# Altium schematic symbol library COMPONENTES.SchLib: 87 symbols
Pins are listed as number, name and electrical type; pins without a type are passive.

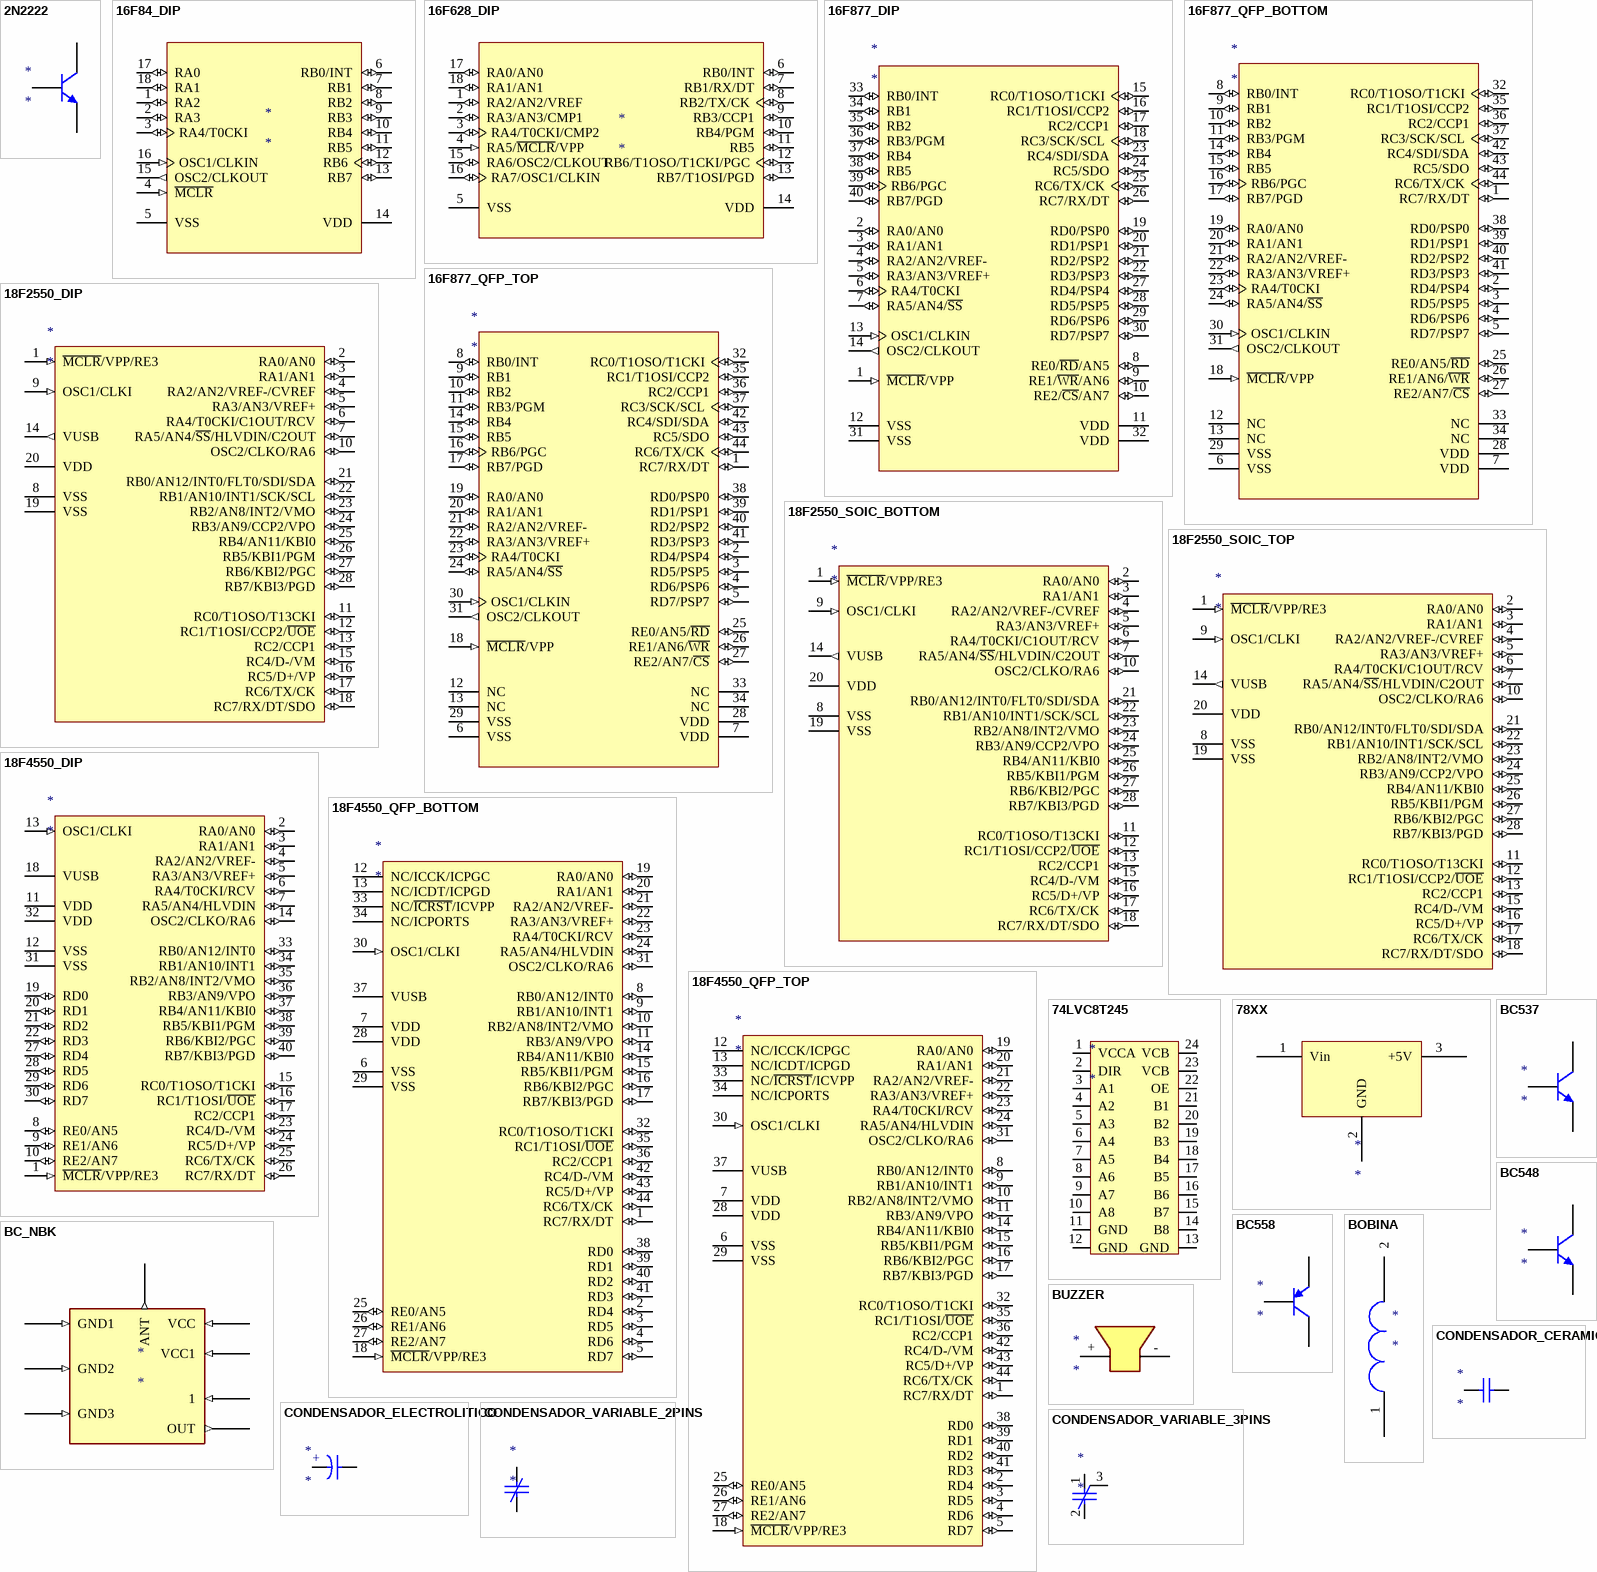
[diagram p0: symbols 2N2222 to CONDENSADOR_VARIABLE_3PINS]

## 2N2222
designator *
footprint 2N2222 (Can; 3 Leads; Pin Circle Dia. 2.54 mm; Lead Dia. 0.48 mm (max))
pins: B, C, E

## 16F84_DIP
designator *
footprint 16F84_DIP
pins: 1 RA2 (io), 2 RA3 (io), 3 RA4/T0CKI (io), 4 ~{MCLR} (in), 5 VSS (power), 6 RB0/INT (io), 7 RB1 (io), 8 RB2 (io), 9 RB3 (io), 10 RB4 (io), 11 RB5 (io), 12 RB6 (io), 13 RB7 (io), 14 VDD (power), 15 OSC2/CLKOUT (out), 16 OSC1/CLKIN (in), 17 RA0 (io), 18 RA1 (io)

## 16F628_DIP
designator *
footprint 16F628_DIP
pins: 1 RA2/AN2/VREF (io), 2 RA3/AN3/CMP1 (io), 3 RA4/T0CKI/CMP2 (io), 4 RA5/~{MCLR}/VPP (in), 5 VSS (power), 6 RB0/INT (io), 7 RB1/RX/DT (io), 8 RB2/TX/CK (io), 9 RB3/CCP1 (io), 10 RB4/PGM (io), 11 RB5 (io), 12 RB6/T1OSO/T1CKI/PGC (io), 13 RB7/T1OSI/PGD (io), 14 VDD (power), 15 RA6/OSC2/CLKOUT (io), 16 RA7/OSC1/CLKIN (io), 17 RA0/AN0 (io), 18 RA1/AN1 (io)

## 16F877_DIP
designator *
footprint 16F877_DIP
pins: 1 ~{MCLR}/VPP (in), 2 RA0/AN0 (io), 3 RA1/AN1 (io), 4 RA2/AN2/VREF- (io), 5 RA3/AN3/VREF+ (io), 6 RA4/T0CKI (io), 7 RA5/AN4/~{SS} (io), 8 RE0/~{RD}/AN5 (io), 9 RE1/~{WR}/AN6 (io), 10 RE2/~{CS}/AN7 (io), 11 VDD (power), 12 VSS (power), 13 OSC1/CLKIN (in), 14 OSC2/CLKOUT (out), 15 RC0/T1OSO/T1CKI (io), 16 RC1/T1OSI/CCP2 (io), 17 RC2/CCP1 (io), 18 RC3/SCK/SCL (io), 19 RD0/PSP0 (io), 20 RD1/PSP1 (io), 21 RD2/PSP2 (io), 22 RD3/PSP3 (io), 23 RC4/SDI/SDA (io), 24 RC5/SDO (io), 25 RC6/TX/CK (io), 26 RC7/RX/DT (io), 27 RD4/PSP4 (io), 28 RD5/PSP5 (io), 29 RD6/PSP6 (io), 30 RD7/PSP7 (io), 31 VSS (power), 32 VDD (power), 33 RB0/INT (io), 34 RB1 (io), 35 RB2 (io), 36 RB3/PGM (io), 37 RB4 (io), 38 RB5 (io), 39 RB6/PGC (io), 40 RB7/PGD (io)

## 16F877_QFP_BOTTOM
designator *
footprint 16F877_QFP_BOTOM
pins: 1 RC7/RX/DT (io), 2 RD4/PSP4 (io), 3 RD5/PSP5 (io), 4 RD6/PSP6 (io), 5 RD7/PSP7 (io), 6 VSS (power), 7 VDD (power), 8 RB0/INT (io), 9 RB1 (io), 10 RB2 (io), 11 RB3/PGM (io), 12 NC, 13 NC, 14 RB4 (io), 15 RB5 (io), 16 RB6/PGC (io), 17 RB7/PGD (io), 18 ~{MCLR}/VPP (in), 19 RA0/AN0 (io), 20 RA1/AN1 (io), 21 RA2/AN2/VREF- (io), 22 RA3/AN3/VREF+ (io), 23 RA4/T0CKI (io), 24 RA5/AN4/~{SS} (io), 25 RE0/AN5/~{RD} (io), 26 RE1/AN6/~{WR} (io), 27 RE2/AN7/~{CS} (io), 28 VDD (power), 29 VSS (power), 30 OSC1/CLKIN (in), 31 OSC2/CLKOUT (out), 32 RC0/T1OSO/T1CKI (io), 33 NC, 34 NC, 35 RC1/T1OSI/CCP2 (io), 36 RC2/CCP1 (io), 37 RC3/SCK/SCL (io), 38 RD0/PSP0 (io), 39 RD1/PSP1 (io), 40 RD2/PSP2 (io), 41 RD3/PSP3 (io), 42 RC4/SDI/SDA (io), 43 RC5/SDO (io), 44 RC6/TX/CK (io)

## 16F877_QFP_TOP
designator *
footprint 16F877_QFP_TOP
pins: 1 RC7/RX/DT (io), 2 RD4/PSP4 (io), 3 RD5/PSP5 (io), 4 RD6/PSP6 (io), 5 RD7/PSP7 (io), 6 VSS (power), 7 VDD (power), 8 RB0/INT (io), 9 RB1 (io), 10 RB2 (io), 11 RB3/PGM (io), 12 NC, 13 NC, 14 RB4 (io), 15 RB5 (io), 16 RB6/PGC (io), 17 RB7/PGD (io), 18 ~{MCLR}/VPP (in), 19 RA0/AN0 (io), 20 RA1/AN1 (io), 21 RA2/AN2/VREF- (io), 22 RA3/AN3/VREF+ (io), 23 RA4/T0CKI (io), 24 RA5/AN4/~{SS} (io), 25 RE0/AN5/~{RD} (io), 26 RE1/AN6/~{WR} (io), 27 RE2/AN7/~{CS} (io), 28 VDD (power), 29 VSS (power), 30 OSC1/CLKIN (in), 31 OSC2/CLKOUT (out), 32 RC0/T1OSO/T1CKI (io), 33 NC, 34 NC, 35 RC1/T1OSI/CCP2 (io), 36 RC2/CCP1 (io), 37 RC3/SCK/SCL (io), 38 RD0/PSP0 (io), 39 RD1/PSP1 (io), 40 RD2/PSP2 (io), 41 RD3/PSP3 (io), 42 RC4/SDI/SDA (io), 43 RC5/SDO (io), 44 RC6/TX/CK (io)

## 18F2550_DIP
designator *
footprint 18F2550_DIP
pins: 1 ~{MCLR}/VPP/RE3 (in), 2 RA0/AN0 (io), 3 RA1/AN1 (io), 4 RA2/AN2/VREF-/CVREF (io), 5 RA3/AN3/VREF+ (io), 6 RA4/T0CKI/C1OUT/RCV (io), 7 RA5/AN4/~{SS}/HLVDIN/C2OUT (io), 8 VSS (power), 9 OSC1/CLKI (in), 10 OSC2/CLKO/RA6 (io), 11 RC0/T1OSO/T13CKI (io), 12 RC1/T1OSI/CCP2/~{UOE} (io), 13 RC2/CCP1 (io), 14 VUSB (out), 15 RC4/D-/VM (io), 16 RC5/D+/VP (io), 17 RC6/TX/CK (io), 18 RC7/RX/DT/SDO (io), 19 VSS (power), 20 VDD (power), 21 RB0/AN12/INT0/FLT0/SDI/SDA (io), 22 RB1/AN10/INT1/SCK/SCL (io), 23 RB2/AN8/INT2/VMO (io), 24 RB3/AN9/CCP2/VPO (io), 25 RB4/AN11/KBI0 (io), 26 RB5/KBI1/PGM (io), 27 RB6/KBI2/PGC (io), 28 RB7/KBI3/PGD (io)

## 18F2550_SOIC_BOTTOM
designator *
footprint 18F2550_SOIC_BOTTOM
pins: 1 ~{MCLR}/VPP/RE3 (in), 2 RA0/AN0 (io), 3 RA1/AN1 (io), 4 RA2/AN2/VREF-/CVREF (io), 5 RA3/AN3/VREF+ (io), 6 RA4/T0CKI/C1OUT/RCV (io), 7 RA5/AN4/~{SS}/HLVDIN/C2OUT (io), 8 VSS (power), 9 OSC1/CLKI (in), 10 OSC2/CLKO/RA6 (io), 11 RC0/T1OSO/T13CKI (io), 12 RC1/T1OSI/CCP2/~{UOE} (io), 13 RC2/CCP1 (io), 14 VUSB (out), 15 RC4/D-/VM (io), 16 RC5/D+/VP (io), 17 RC6/TX/CK (io), 18 RC7/RX/DT/SDO (io), 19 VSS (power), 20 VDD (power), 21 RB0/AN12/INT0/FLT0/SDI/SDA (io), 22 RB1/AN10/INT1/SCK/SCL (io), 23 RB2/AN8/INT2/VMO (io), 24 RB3/AN9/CCP2/VPO (io), 25 RB4/AN11/KBI0 (io), 26 RB5/KBI1/PGM (io), 27 RB6/KBI2/PGC (io), 28 RB7/KBI3/PGD (io)

## 18F2550_SOIC_TOP
designator *
footprint 18F2550_SOIC_TOP (28-Pin Small Outline Integrated Circuit 1.27 mm Pitch, IPC High Density)
pins: 1 ~{MCLR}/VPP/RE3 (in), 2 RA0/AN0 (io), 3 RA1/AN1 (io), 4 RA2/AN2/VREF-/CVREF (io), 5 RA3/AN3/VREF+ (io), 6 RA4/T0CKI/C1OUT/RCV (io), 7 RA5/AN4/~{SS}/HLVDIN/C2OUT (io), 8 VSS (power), 9 OSC1/CLKI (in), 10 OSC2/CLKO/RA6 (io), 11 RC0/T1OSO/T13CKI (io), 12 RC1/T1OSI/CCP2/~{UOE} (io), 13 RC2/CCP1 (io), 14 VUSB (out), 15 RC4/D-/VM (io), 16 RC5/D+/VP (io), 17 RC6/TX/CK (io), 18 RC7/RX/DT/SDO (io), 19 VSS (power), 20 VDD (power), 21 RB0/AN12/INT0/FLT0/SDI/SDA (io), 22 RB1/AN10/INT1/SCK/SCL (io), 23 RB2/AN8/INT2/VMO (io), 24 RB3/AN9/CCP2/VPO (io), 25 RB4/AN11/KBI0 (io), 26 RB5/KBI1/PGM (io), 27 RB6/KBI2/PGC (io), 28 RB7/KBI3/PGD (io)

## 18F4550_DIP
designator *
footprint 18F4550_DIP
pins: 1 ~{MCLR}/VPP/RE3 (in), 2 RA0/AN0 (io), 3 RA1/AN1 (io), 4 RA2/AN2/VREF- (io), 5 RA3/AN3/VREF+ (io), 6 RA4/T0CKI/RCV (io), 7 RA5/AN4/HLVDIN (io), 8 RE0/AN5 (io), 9 RE1/AN6 (io), 10 RE2/AN7 (io), 11 VDD (power), 12 VSS (power), 13 OSC1/CLKI (in), 14 OSC2/CLKO/RA6 (io), 15 RC0/T1OSO/T1CKI (io), 16 RC1/T1OSI/~{UOE} (io), 17 RC2/CCP1 (io), 18 VUSB (power), 19 RD0 (io), 20 RD1 (io), 21 RD2 (io), 22 RD3 (io), 23 RC4/D-/VM (io), 24 RC5/D+/VP (io), 25 RC6/TX/CK (io), 26 RC7/RX/DT (io), 27 RD4 (io), 28 RD5 (io), 29 RD6 (io), 30 RD7 (io), 31 VSS (power), 32 VDD (power), 33 RB0/AN12/INT0 (io), 34 RB1/AN10/INT1 (io), 35 RB2/AN8/INT2/VMO (io), 36 RB3/AN9/VPO (io), 37 RB4/AN11/KBI0 (io), 38 RB5/KBI1/PGM (io), 39 RB6/KBI2/PGC (io), 40 RB7/KBI3/PGD (io)

## 18F4550_QFP_BOTTOM
designator *
footprint 18F4550_QFP_BOTTOM
pins: 1 RC7/RX/DT (io), 2 RD4 (io), 3 RD5 (io), 4 RD6 (io), 5 RD7 (io), 6 VSS (power), 7 VDD (power), 8 RB0/AN12/INT0 (io), 9 RB1/AN10/INT1 (io), 10 RB2/AN8/INT2/VMO (io), 11 RB3/AN9/VPO (io), 12 NC/ICCK/ICPGC, 13 NC/ICDT/ICPGD, 14 RB4/AN11/KBI0 (io), 15 RB5/KBI1/PGM (io), 16 RB6/KBI2/PGC (io), 17 RB7/KBI3/PGD (io), 18 ~{MCLR}/VPP/RE3 (in), 19 RA0/AN0 (io), 20 RA1/AN1 (io), 21 RA2/AN2/VREF- (io), 22 RA3/AN3/VREF+ (io), 23 RA4/T0CKI/RCV (io), 24 RA5/AN4/HLVDIN (io), 25 RE0/AN5 (io), 26 RE1/AN6 (io), 27 RE2/AN7 (io), 28 VDD (power), 29 VSS (power), 30 OSC1/CLKI (in), 31 OSC2/CLKO/RA6 (io), 32 RC0/T1OSO/T1CKI (io), 33 NC/~{ICRST}/ICVPP, 34 NC/ICPORTS, 35 RC1/T1OSI/~{UOE} (io), 36 RC2/CCP1 (io), 37 VUSB (power), 38 RD0 (io), 39 RD1 (io), 40 RD2 (io), 41 RD3 (io), 42 RC4/D-/VM (io), 43 RC5/D+/VP (io), 44 RC6/TX/CK (io)

## 18F4550_QFP_TOP
designator *
footprint 18F4550_QFP_TOP
pins: 1 RC7/RX/DT (io), 2 RD4 (io), 3 RD5 (io), 4 RD6 (io), 5 RD7 (io), 6 VSS (power), 7 VDD (power), 8 RB0/AN12/INT0 (io), 9 RB1/AN10/INT1 (io), 10 RB2/AN8/INT2/VMO (io), 11 RB3/AN9/VPO (io), 12 NC/ICCK/ICPGC, 13 NC/ICDT/ICPGD, 14 RB4/AN11/KBI0 (io), 15 RB5/KBI1/PGM (io), 16 RB6/KBI2/PGC (io), 17 RB7/KBI3/PGD (io), 18 ~{MCLR}/VPP/RE3 (in), 19 RA0/AN0 (io), 20 RA1/AN1 (io), 21 RA2/AN2/VREF- (io), 22 RA3/AN3/VREF+ (io), 23 RA4/T0CKI/RCV (io), 24 RA5/AN4/HLVDIN (io), 25 RE0/AN5 (io), 26 RE1/AN6 (io), 27 RE2/AN7 (io), 28 VDD (power), 29 VSS (power), 30 OSC1/CLKI (in), 31 OSC2/CLKO/RA6 (io), 32 RC0/T1OSO/T1CKI (io), 33 NC/~{ICRST}/ICVPP, 34 NC/ICPORTS, 35 RC1/T1OSI/~{UOE} (io), 36 RC2/CCP1 (io), 37 VUSB (power), 38 RD0 (io), 39 RD1 (io), 40 RD2 (io), 41 RD3 (io), 42 RC4/D-/VM (io), 43 RC5/D+/VP (io), 44 RC6/TX/CK (io)

## 74LVC8T245
designator *
footprint SN74LVC8T245_SMD_TOP_SOIC
footprint SN74LVC8T245_SMD_TOP_TSSOP
pins: 1 VCCA, 2 DIR, 3 A1, 4 A2, 5 A3, 6 A4, 7 A5, 8 A6, 9 A7, 10 A8, 11 GND, 12 GND, 13 GND, 14 B8, 15 B7, 16 B6, 17 B5, 18 B4, 19 B3, 20 B2, 21 B1, 22 OE, 23 VCB, 24 VCB

## 78XX
designator *
footprint 78XX HORIZONTAL
footprint 78XX_VERTICAL (TO, Thru-Hole, Vertical, Heatsink Mounted; 3 In-Line Leads; Pitch 2.54 mm)
footprint 78XX_SMD_TOP_D2PACK
pins: 1 Vin (power), 2 GND (power), 3 +5V (power)

## BC537
designator *
footprint BC537
pins: B, C, E

## BC548
designator *
footprint BC548
pins: B, C, E

## BC558
designator *
pins: B, C, E

## BC_NBK
designator *
footprint BC_NBK
pins: 1 (in), ANT (out), GND1 (in), GND2 (in), GND3 (in), OUT (out), VCC (in), VCC1 (in)

## BOBINA
designator *
footprint BOBINA-9
footprint BOBINA_PLAS
pins: 1, 2

## BUZZER
designator *
footprint BUZZER
pins: + 1 (power), - 2 (power)

## CONDENSADOR_CERAMICO
designator *
footprint CAP_03
footprint CAP_05
footprint CAP_15
footprint 0805_SMD
footprint 0805_SMD - BOTTOM
footprint 1206_SMD
footprint 1206_SMD_BOTTOM
pins: 1, 2

## CONDENSADOR_ELECTROLITICO
designator *
footprint CAP_ELEC_03
footprint CAP_ELEC_05
footprint CAP_ELEC_05_SMD_TOP
pins: +, -

## CONDENSADOR_VARIABLE_2PINS
designator *
footprint CAP_VAR_2P
pins: 1, 2

## CONDENSADOR_VARIABLE_3PINS
designator *
footprint CAP_VAR_3G
footprint CAP_VAR_3P
pins: 1, 2, 3

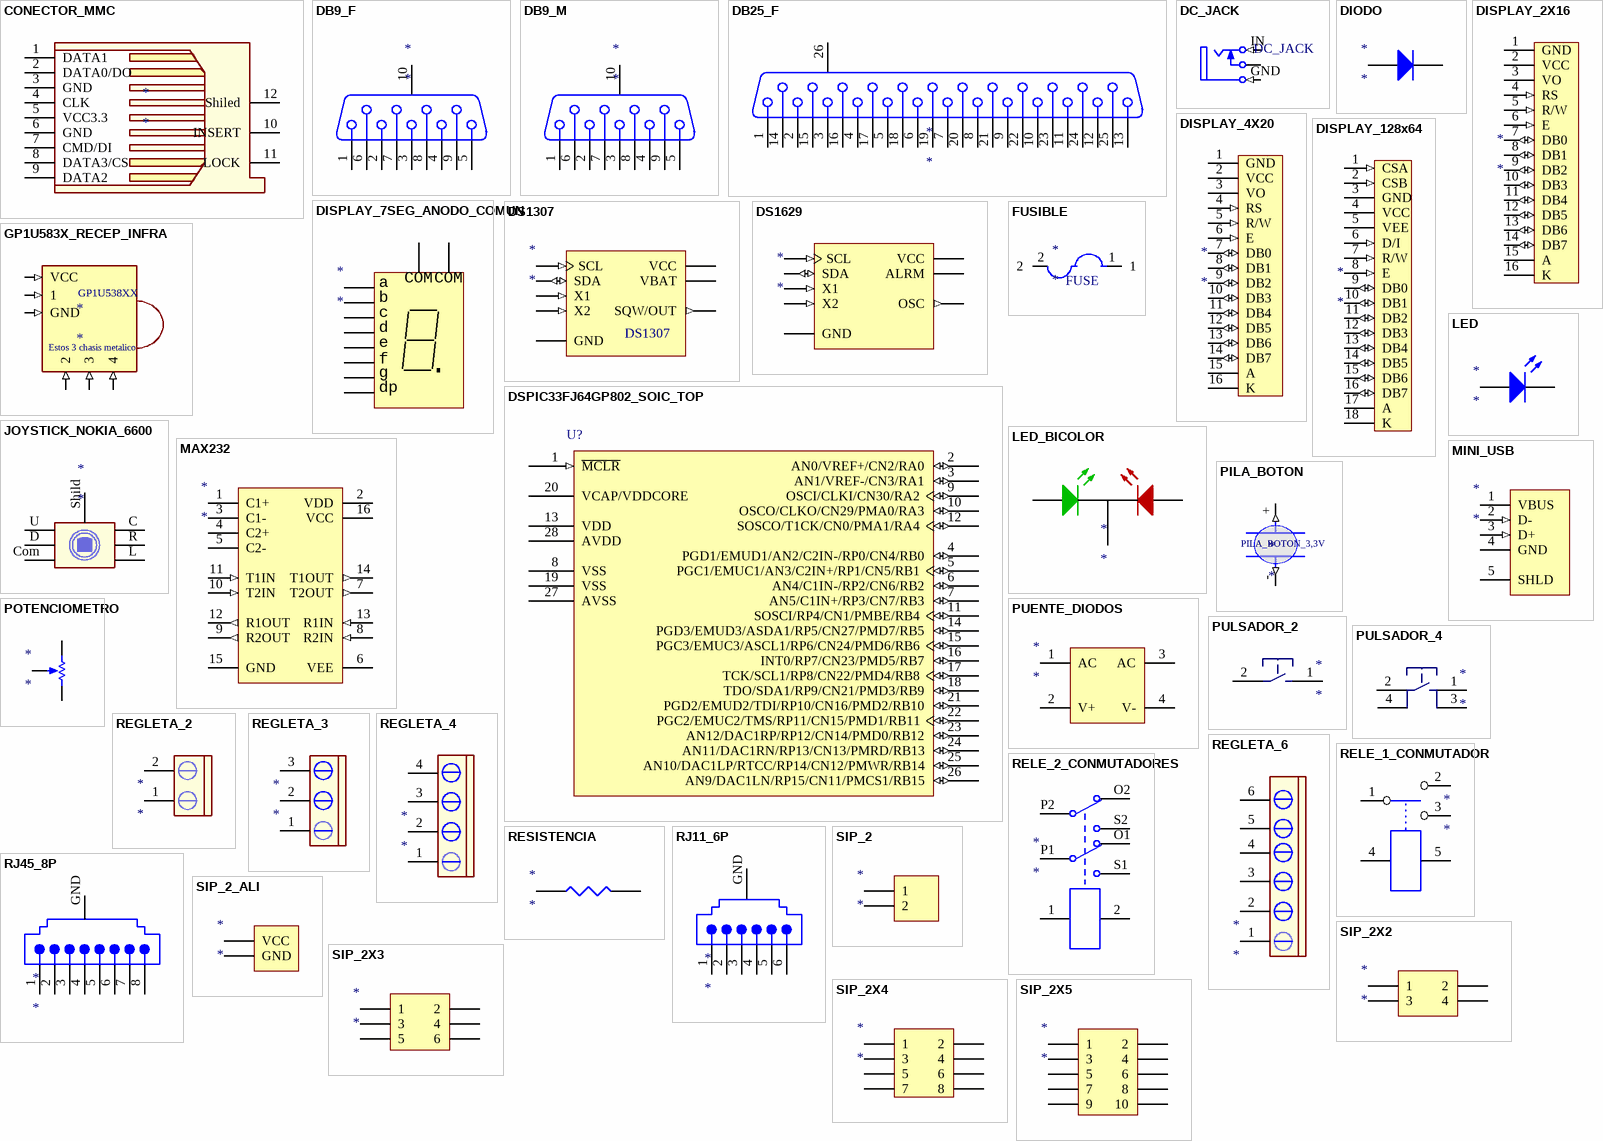
[diagram p1: symbols CONECTOR_MMC to SIP_2X5]

## CONECTOR_MMC
designator *
footprint CONECTOR_MMC
pins: 1 DATA1, 2 DATA0/DO, 3 GND, 4 CLK, 5 VCC3.3, 6 GND, 7 CMD/DI, 8 DATA3/CS, 9 DATA2, 10 INSERT, 11 LOCK, 12 Shiled

## DB9_F
designator *
footprint DB9_F
pins: 1, 2, 3, 4, 5, 6, 7, 8, 9, 10 MH1

## DB9_M
designator *
footprint DB9_M
pins: 1, 2, 3, 4, 5, 6, 7, 8, 9, 10 MH1

## DB25_F
designator *
footprint DB25_F
pins: 1, 2, 3, 4, 5, 6, 7, 8, 9, 10, 11, 12, 13, 14, 15, 16, 17, 18, 19, 20, 21, 22, 23, 24, 25, 26 MH1

## DC_JACK
designator DC_JACK  (value not drawn)
footprint DC_JACK
footprint DC_JACK_SMD_TOP
pins: 2 "Tip Normal (Break Contact)", GND (in) "Sleeve (Ground)", IN (in) "Tip"

## DIODO
designator *
footprint DIODO_6
footprint DIODO_10
footprint DIODO_11
footprint DIODO_12
footprint DIODO_15
footprint DIODO_0805_BOTTOM
footprint DIODO_0805_TOP
footprint DIODO_1206_BOTTOM
footprint DIODO_1206_TOP
pins: A, K

## DISPLAY_2X16
designator *
footprint DISPLAY_2X16
pins: 1 GND (power), 2 VCC (power), 3 VO, 4 RS (in), 5 R/W (in), 6 E (in), 7 DB0 (io), 8 DB1 (io), 9 DB2 (io), 10 DB3 (io), 11 DB4 (io), 12 DB5 (io), 13 DB6 (io), 14 DB7 (io), 15 A, 16 K

## DISPLAY_4X20
designator *
footprint DISPLAY_4X20
footprint DISPLAY_4X20_CONECTOR_TOP
pins: 1 GND (power), 2 VCC (power), 3 VO, 4 RS (in), 5 R/W (in), 6 E (in), 7 DB0 (io), 8 DB1 (io), 9 DB2 (io), 10 DB3 (io), 11 DB4 (io), 12 DB5 (io), 13 DB6 (io), 14 DB7 (io), 15 A, 16 K

## DISPLAY_7SEG_ANODO_COMUN
designator *
footprint DISPLAY_7SEG_ANODO_COMUN
pins: 1 COM (power), 2 e, 3 d, 4 c, 5 COM (power), 6 b, 7 a, 8 dp, 9 f, 10 g

## DISPLAY_128x64
designator *
footprint DISPLAY_128x64
pins: 1 CSA (in), 2 CSB (in), 3 GND (power), 4 VCC (power), 5 VEE (power), 6 D/I (in), 7 R/W (in), 8 E (in), 9 DB0 (io), 10 DB1 (io), 11 DB2 (io), 12 DB3 (io), 13 DB4 (io), 14 DB5 (io), 15 DB6 (io), 16 DB7 (io), 17 A, 18 K

## DS1307
designator *
footprint DS1307
footprint DS1307_SMD_TOP
pins: GND (power), SCL (in), SDA (io), SQW/OUT (out), VBAT (power), VCC (power), X1 (in), X2 (in)

## DS1629
designator *
footprint DS1629
footprint DS1629_SMD_TOP
pins: ALRM (power), GND (power), OSC (out), SCL (in), SDA (io), VCC (power), X1 (in), X2 (in)

## DSPIC33FJ64GP802_SOIC_TOP
designator U?
High-Performance 16-bit Digital Signal Controller, 64 KB Flash, 16 KB RAM, 28-Pin SOIC, Industrial Temperature; Published: 29-Jan-2009; DatasheetVersion: revB, Mar-2008; PackageVersion: revAW, Oct-2008; PackageReference: SOIC-SO28; Publisher: Altium Limited; PackageDescription: 28-Lead Plastic Small Outline (SO) - Wide 7.50mm Body [SOIC]; Code_JEDEC: MS-013; ComponentLink1Description: Manufacturer Link; ComponentLink1URL: http://www.microchip.com; ComponentLink2Description: Datasheet; ComponentLink2URL: http://ww1.microchip.com/downloads/en/DeviceDoc/70292B.pdf; ComponentLink3Description: Packaging Specification; ComponentLink3URL: http://ww1.microchip.com/downloads/en/PackagingSpec/00049AW.pdf
footprint DSPIC33FJ64MC802_SMD_TOP
pins: 1 ~{MCLR} (in), 2 AN0/VREF+/CN2/RA0 (io), 3 AN1/VREF-/CN3/RA1 (io), 4 PGD1/EMUD1/AN2/C2IN-/RP0/CN4/RB0 (io), 5 PGC1/EMUC1/AN3/C2IN+/RP1/CN5/RB1 (io), 6 AN4/C1IN-/RP2/CN6/RB2 (io), 7 AN5/C1IN+/RP3/CN7/RB3 (io), 8 VSS (power), 9 OSCI/CLKI/CN30/RA2 (io), 10 OSCO/CLKO/CN29/PMA0/RA3 (io), 11 SOSCI/RP4/CN1/PMBE/RB4 (io), 12 SOSCO/T1CK/CN0/PMA1/RA4 (io), 13 VDD (power), 14 PGD3/EMUD3/ASDA1/RP5/CN27/PMD7/RB5 (io), 15 PGC3/EMUC3/ASCL1/RP6/CN24/PMD6/RB6 (io), 16 INT0/RP7/CN23/PMD5/RB7 (io), 17 TCK/SCL1/RP8/CN22/PMD4/RB8 (io), 18 TDO/SDA1/RP9/CN21/PMD3/RB9 (io), 19 VSS (power), 20 VCAP/VDDCORE (power), 21 PGD2/EMUD2/TDI/RP10/CN16/PMD2/RB10 (io), 22 PGC2/EMUC2/TMS/RP11/CN15/PMD1/RB11 (io), 23 AN12/DAC1RP/RP12/CN14/PMD0/RB12 (io), 24 AN11/DAC1RN/RP13/CN13/PMRD/RB13 (io), 25 AN10/DAC1LP/RTCC/RP14/CN12/PMWR/RB14 (io), 26 AN9/DAC1LN/RP15/CN11/PMCS1/RB15 (io), 27 AVSS (power), 28 AVDD (power)

## FUSIBLE
designator *
footprint FUSE_GRAND
footprint FUSE_PEQUE
pins: 1, 2
text: FUSE

## GP1U583X_RECEP_INFRA
designator *
footprint GP1U583X_RECEP_INFRA
pins: 0VCC VCC (in), 1 (in), 2 (in), 3 (in), 4 (in), GND (in)
text: GP1U538XX; Estos 3 chasis metalico

## JOYSTICK_NOKIA_6600
designator *
footprint JOYSTICK_NOKIA_6600
pins: C, Com C, D, L, R, Shild, U

## LED
designator *
footprint LED_3
footprint LED_5
footprint LED_0805_BOTTOM
footprint LED_0805_TOP
footprint LED_1206_BOTTOM
footprint LED_1206_TOP
pins: A, K

## LED_BICOLOR
designator *
footprint LED_BICOLOR
pins: AG, AR, K

## MAX232
designator *
footprint MAX232_SMD_TOP
pins: 1 C1+, 2 VDD (power), 3 C1-, 4 C2+, 5 C2-, 6 VEE (power), 7 T2OUT (out), 8 R2IN (in), 9 R2OUT (out), 10 T2IN (in), 11 T1IN (in), 12 R1OUT (out), 13 R1IN (in), 14 T1OUT (out), 15 GND (power), 16 VCC (power)

## MINI_USB
designator *
footprint MINI_USB
pins: 1 VBUS (power) "Power", 2 D- (in) "-DATA", 3 D+ (in) "+DATA", 4 GND (power) "Ground", 5 SHLD "Shield"

## PILA_BOTON
designator *
footprint PILA_BOTON
pins: + (out), - (out)
text: PILA_BOTON_3,3V

## POTENCIOMETRO
designator *
footprint POT_GRAND
footprint POT_PEQ
footprint POT_GRAND_SMD_TOP
footprint POT_PEQ_SMD_TOP
pins: 1 TOP, 2 BOT, 3 TAP

## PUENTE_DIODOS
designator *
footprint PUENTE DIODOS
pins: 1 AC, 2 V+, 3 AC, 4 V-

## PULSADOR_2
designator *
footprint PULSADOR_2
pins: 1, 2

## PULSADOR_4
designator *
footprint PULSADOR_4
footprint PULSADOR_4_SMD_TOP
pins: 1, 2, 3, 4

## REGLETA_2
designator *
footprint REGLETA_2
pins: 1, 2

## REGLETA_3
designator *
footprint REGLETA_3
pins: 1, 2, 3

## REGLETA_4
designator *
footprint REGLETA_4
pins: 1, 2, 3, 4

## REGLETA_6
designator *
footprint REGLETA_6
pins: 1, 2, 3, 4, 5, 6

## RELE_1_CONMUTADOR
designator *
footprint RELE_1_CONMUTADOR
pins: 1, 2, 3, 4, 5

## RELE_2_CONMUTADORES
designator *
footprint RELE_2_CONMUTADORES
pins: 1, 2, O1, O2, P1, P2, S1, S2

## RESISTENCIA
designator *
footprint 0805_SMD
footprint 0805_SMD - BOTTOM
footprint 1206_SMD
footprint 1206_SMD_BOTTOM
footprint RESISTENCIA_1W
footprint RESISTENCIA_1W_V
footprint RESISTENCIA_3W
footprint RESISTENCIA_6
footprint RESISTENCIA_8
footprint RESISTENCIA_12
footprint RESISTENCIA_V
pins: 1, 2

## RJ11_6P
designator *
footprint RJ11-6P-VERT
footprint RJ11-6P-ACOD
footprint RJ11-6P-VERT_SMD_TOP
pins: 1, 2, 3, 4, 5, 6, GND

## RJ45_8P
designator *
footprint RJ45-8P-VERT
footprint RJ45-8P-ACOD
footprint RJ45-8P-VERT_SMD_TOP
pins: 1, 2, 3, 4, 5, 6, 7, 8, GND

## SIP_2
designator *
footprint SIP_2
pins: 1, 2

## SIP_2_ALI
designator *
footprint SIP_2_ALI
footprint SIP_2_SMD_TOP
footprint SIP_2
pins: GND, VCC

## SIP_2X2
designator *
footprint SIP_2X02
footprint SIP_2X02_SMD_TOP
pins: 1, 2, 3, 4

## SIP_2X3
designator *
footprint SIP_2X03
footprint SIP_2X03_SMD_TOP
pins: 1, 2, 3, 4, 5, 6

## SIP_2X4
designator *
footprint SIP_2X04
footprint SIP_2X04_SMD_TOP
pins: 1, 2, 3, 4, 5, 6, 7, 8

## SIP_2X5
designator *
footprint SIP_2X05
footprint SIP_2X05_SMD_TOP
pins: 1, 2, 3, 4, 5, 6, 7, 8, 9, 10

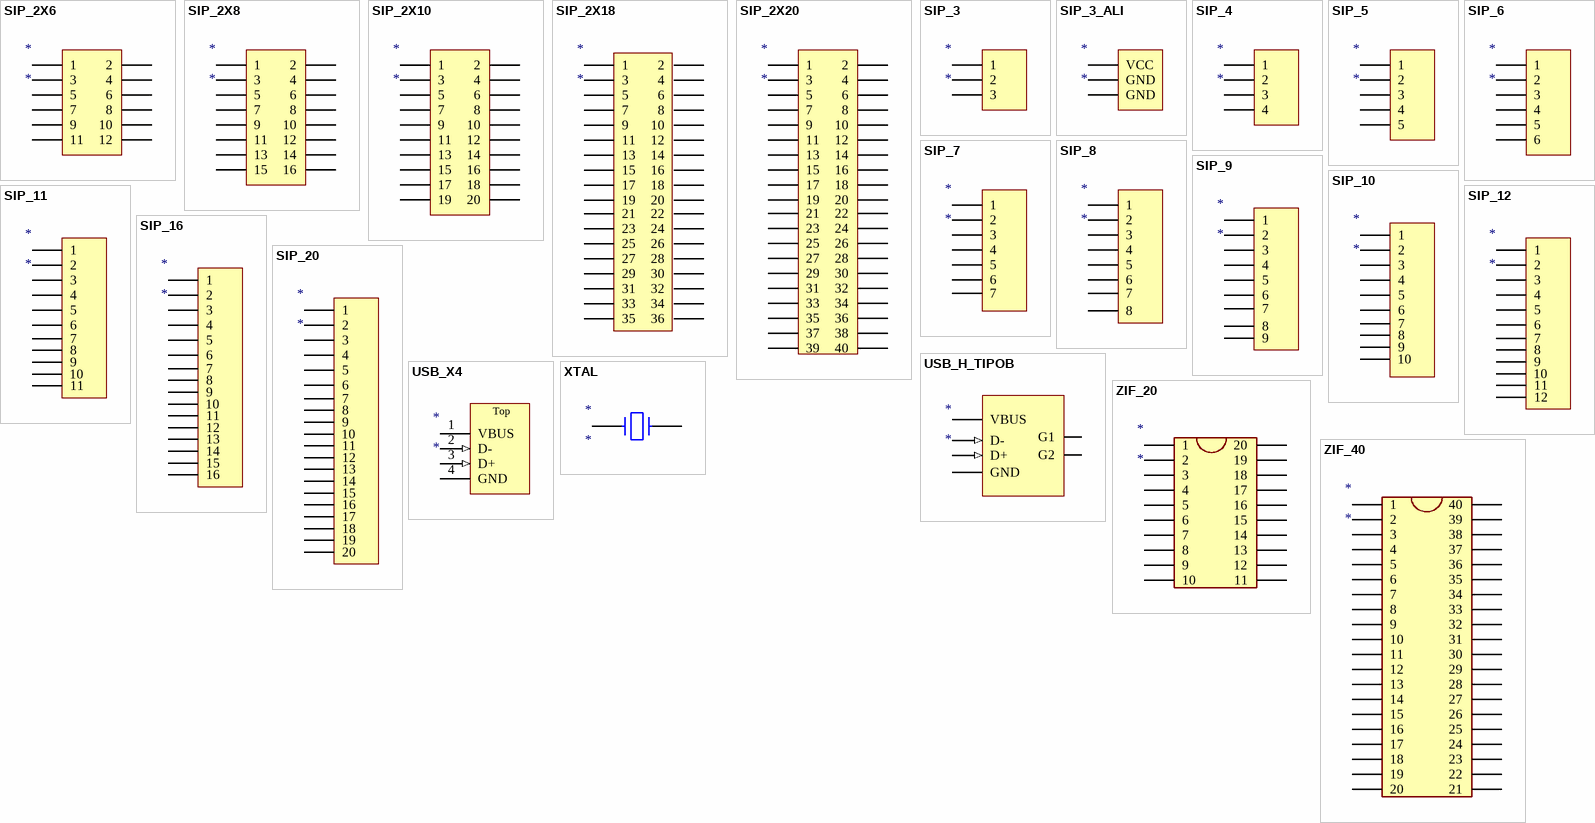
[diagram p2: symbols SIP_2X6 to ZIF_40]

## SIP_2X6
designator *
footprint SIP_2X06
footprint SIP_2X06_SMD_TOP
pins: 1, 2, 3, 4, 5, 6, 7, 8, 9, 10, 11, 12

## SIP_2X8
designator *
footprint SIP_2X08
footprint SIP_2X08_SMD_TOP
pins: 1, 2, 3, 4, 5, 6, 7, 8, 9, 10, 11, 12, 13, 14, 15, 16

## SIP_2X10
designator *
footprint SIP_2X10
footprint SIP_2X10_SMD_TOP
pins: 1, 2, 3, 4, 5, 6, 7, 8, 9, 10, 11, 12, 13, 14, 15, 16, 17, 18, 19, 20

## SIP_2X18
designator *
pins: 1, 2, 3, 4, 5, 6, 7, 8, 9, 10, 11, 12, 13, 14, 15, 16, 17, 18, 19, 20, 21, 22, 23, 24, 25, 26, 27, 28, 29, 30, 31, 32, 33, 34, 35, 36

## SIP_2X20
designator *
pins: 1, 2, 3, 4, 5, 6, 7, 8, 9, 10, 11, 12, 13, 14, 15, 16, 17, 18, 19, 20, 21, 22, 23, 24, 25, 26, 27, 28, 29, 30, 31, 32, 33, 34, 35, 36, 37, 38, 39, 40

## SIP_3
designator *
footprint SIP_3
pins: 1, 2, 3

## SIP_3_ALI
designator *
footprint SIP_3_ALI
footprint SIP_3_ALI_TOP
pins: GND, GND, VCC

## SIP_4
designator *
footprint SIP_4
footprint SIP_4_SMD_TOP
pins: 1, 2, 3, 4

## SIP_5
designator *
footprint SIP_5
footprint SIP_5_SMD_TOP
pins: 1, 2, 3, 4, 5

## SIP_6
designator *
footprint SIP_6
footprint SIP_6_SMD_TOP
pins: 1, 2, 3, 4, 5, 6

## SIP_7
designator *
footprint SIP_7
pins: 1, 2, 3, 4, 5, 6, 7

## SIP_8
designator *
footprint SIP_8
footprint SIP_8_SMD_TOP
pins: 1, 2, 3, 4, 5, 6, 7, 8

## SIP_9
designator *
footprint SIP_9
pins: 1, 2, 3, 4, 5, 6, 7, 8, 9

## SIP_10
designator *
footprint SIP_10
footprint SIP_10_SMD_TOP
pins: 1, 2, 3, 4, 5, 6, 7, 8, 9, 10

## SIP_11
designator *
footprint SIP_11
footprint SIP_11_SMD_TOP
pins: 1, 2, 3, 4, 5, 6, 7, 8, 9, 10, 11

## SIP_12
designator *
footprint SIP_12
footprint SIP_12_SMD_TOP
pins: 1, 2, 3, 4, 5, 6, 7, 8, 9, 10, 11, 12

## SIP_16
designator *
footprint SIP_16
pins: 1, 2, 3, 4, 5, 6, 7, 8, 9, 10, 11, 12, 13, 14, 15, 16

## SIP_20
designator *
footprint SIP_20
pins: 1, 2, 3, 4, 5, 6, 7, 8, 9, 10, 11, 12, 13, 14, 15, 16, 17, 18, 19, 20

## USB_H_TIPOB
designator *
footprint USB_H_TIPO_B
pins: D+ (in) "+DATA", D- (in) "-DATA", G1, G2, GND (power) "Ground", VCC VBUS (power) "Power"

## USB_X4
designator *
footprint USB_4
pins: 1 VBUS (power) "Power", 2 D- (in) "-DATA", 3 D+ (in) "+DATA", 4 GND (power) "Ground"
text: Top

## XTAL
designator *
footprint XTAL
footprint XTAL_SMD_TOP
pins: 1, 2

## ZIF_20
designator *
footprint ZIF_20
pins: 1, 2, 3, 4, 5, 6, 7, 8, 9, 10, 11, 12, 13, 14, 15, 16, 17, 18, 19, 20

## ZIF_40
designator *
footprint ZIF_40
pins: 1, 2, 3, 4, 5, 6, 7, 8, 9, 10, 11, 12, 13, 14, 15, 16, 17, 18, 19, 20, 21, 22, 23, 24, 25, 26, 27, 28, 29, 30, 31, 32, 33, 34, 35, 36, 37, 38, 39, 40